# Altium schematic symbol library nhan.SchLib: 15 symbols
Pins are listed as number, name and electrical type; pins without a type are passive.

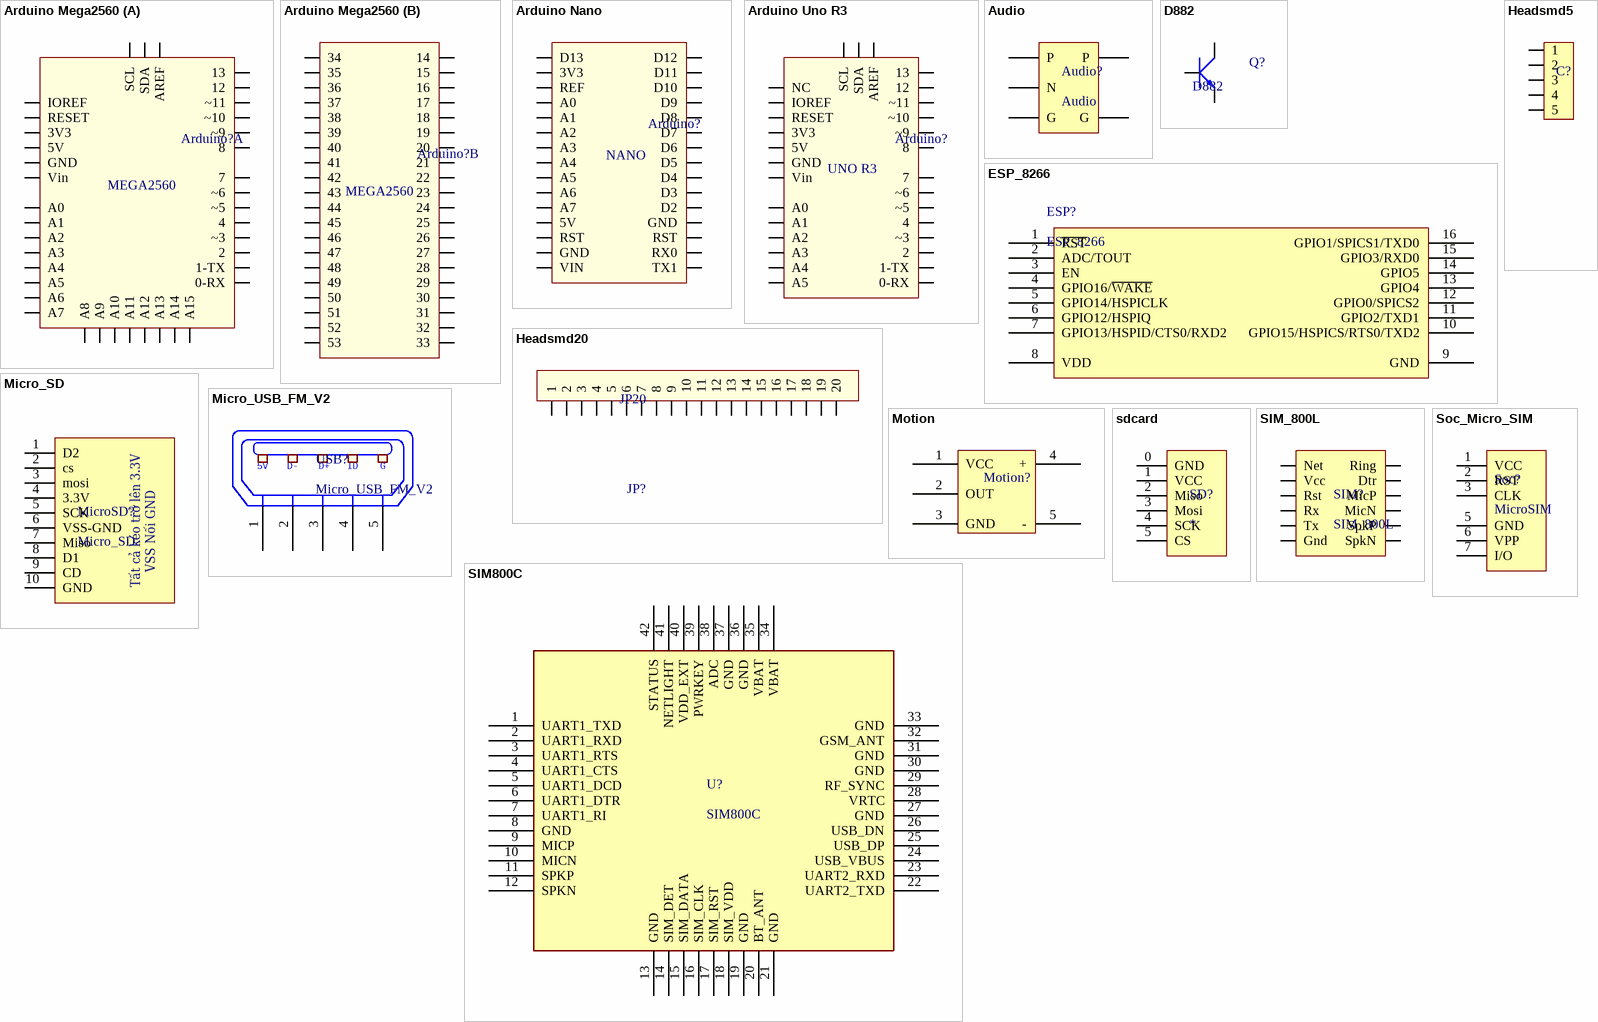
[diagram p0: symbols Arduino Mega2560 to Soc_Micro_SIM]

## Arduino Mega2560
designator Arduino?
Arduino MEGA2560; Value: Cau 1A
footprint Arduino MEGA2560
part A pins: 0-RX, 1-TX, 2, 3V3, 4, 5V, 7, 8, 12, 13, A0, A1, A2, A3, A4, A5, A6, A7, A8, A9, A10, A11, A12, A13, A14, A15, AREF, GND, IOREF, RESET, SCL, SDA, Vin, ~3, ~5, ~6, ~9, ~10, ~11
part B pins: 14, 15, 16, 17, 18, 19, 20, 21, 22, 23, 24, 25, 26, 27, 28, 29, 30, 31, 32, 33, 34, 35, 36, 37, 38, 39, 40, 41, 42, 43, 44, 45, 46, 47, 48, 49, 50, 51, 52, 53
part A text: MEGA2560
part B text: MEGA2560

## Arduino Nano
designator Arduino?
Arduino NANO; Value: Cau 1A
footprint Arduino Nano
pins: 3V3, 5V, A0, A1, A2, A3, A4, A5, A6, A7, D2, D3, D4, D5, D6, D7, D8, D9, D10, D11, D12, D13, GND, GND, REF, RST, RST, RX0, TX1, VIN
text: NANO

## Arduino Uno R3
designator Arduino?
Arduino UNO R3; Value: Cau 1A
footprint Arduino UNO R3 - v1
pins: 0-RX, 1-TX, 2, 3V3, 4, 5V, 7, 8, 12, 13, A0, A1, A2, A3, A4, A5, AREF, GND, IOREF, NC, RESET, SCL, SDA, Vin, ~3, ~5, ~6, ~9, ~10, ~11
text: UNO R3

## Audio
designator Audio?
footprint Audio
pins: G, G, N, P, P

## D882
designator Q?
NPN 2W, BCE; Value: D882
footprint TO252-123
pins: 1 B, 2 C, 3 E

## ESP_8266
designator ESP?
footprint ESP12_small
footprint ESP12
pins: 1 ~{RST} "Reset", 2 ADC/TOUT "ADC Input Or TOUT Output", 3 EN "Chip enable", 4 GPIO16/~{WAKE} "GPIO16 or Deep-Sleep Wakeup", 5 GPIO14/HSPICLK "GPIO14 or SPI CLK", 6 GPIO12/HSPIQ "GPIO12 or SPIQ", 7 GPIO13/HSPID/CTS0/RXD2 "GPIO13 or SPID", 8 VDD "Power supply", 9 GND "Power ground", 10 GPIO15/HSPICS/RTS0/TXD2 "GPIO15 or SPICS", 11 GPIO2/TXD1 "GPIO2 or TX", 12 GPIO0/SPICS2 "GPIO0 or SPICS2", 13 GPIO4 "GPIO5", 14 GPIO5 "GPIO4", 15 GPIO3/RXD0 "GPIO3 or UART RXD", 16 GPIO1/SPICS1/TXD0 "GPIO1 or UART TXD"

## Headsmd5
designator C?
Header IDC, 5 x 1 Pin Vertical 2.54mm Pitch (Non-Boxed, Male); Manufacturer: W¨¹rth Elektronik eiSos GmbH; partNo: 613002143121; ComponentLink1 Description: Manufacturer; ComponentLink2 Description: Datasheet; NoPins: 02; Created Date: 29 March 2013; ComponentLink1URL: http://www.we-online.com; ComponentLink2URL: http://katalog.we-online.de/em/datasheet/6130xx143121.pdf; Created by: Karrer Zheng
footprint HDR5 (Connector; Header; 5 Position)
footprint Header5 (CON5)
pins: 1, 2, 3, 4, 5

## Headsmd20
designator JP?, comment JP20
Connector 20; Value: Connector 10
footprint Headsmd20 (Headsmd20-1mmpich)
pins: 1, 2, 3, 4, 5, 6, 7, 8, 9, 10, 11, 12, 13, 14, 15, 16, 17, 18\ 18, 19, 20

## Micro_SD
designator MicroSD?
footprint microSD™ Card_TF (Micro SD Socket SMT ATTEND 112J-TDAR-R01)
pins: 1 D2, 2 cs, 3 mosi, 4 3.3V, 5 SCK, 6 VSS-GND, 7 Miso, 8 D1, 9 CD, 10 GND
text: VSS Nối GND; Tất cả kéo trở lên 3.3V

## Micro_USB_FM_V2
designator USB?
footprint Micro_USB
pins: 1 P1, 2 P2, 3 P3, 4 P4, 5 P5
text: 5V; D-; D+; ID; G

## Motion
designator Motion?
footprint Motion
pins: 1 VCC, 2 OUT, 3 GND, 4 +, 5 -

## sdcard
designator SD?
footprint SDcard
pins: 0 GND, 1 VCC, 2 Miso, 3 Mosi, 4 SCK, 5 CS

## SIM800C
designator U?
footprint SIM800C
footprint SIM800C
pins: 1 UART1_TXD, 2 UART1_RXD, 3 UART1_RTS, 4 UART1_CTS, 5 UART1_DCD, 6 UART1_DTR, 7 UART1_RI, 8 GND, 9 MICP, 10 MICN, 11 SPKP, 12 SPKN, 13 GND, 14 SIM_DET, 15 SIM_DATA, 16 SIM_CLK, 17 SIM_RST, 18 SIM_VDD, 19 GND, 20 BT_ANT, 21 GND, 22 UART2_TXD, 23 UART2_RXD, 24 USB_VBUS, 25 USB_DP, 26 USB_DN, 27 GND, 28 VRTC, 29 RF_SYNC, 30 GND, 31 GND, 32 GSM_ANT, 33 GND, 34 VBAT, 35 VBAT, 36 GND, 37 GND, 38 ADC, 39 PWRKEY, 40 VDD_EXT, 41 NETLIGHT, 42 STATUS

## SIM_800L
designator SIM?
footprint SIM-800L (Module SIM 800L)
pins: Dtr, GND Gnd, MicN, MicP, Net, Ring, Rst, Rx, SpkN, SpkP, Tx, Vcc

## Soc_Micro_SIM
designator Soc?, comment MicroSIM
footprint microSIM (microSIM PUSH)
pins: 1 VCC, 2 RST, 3 CLK, 5 GND, 6 VPP, 7 I/O